# Altium schematic symbol library 001.SchLib: 1 symbol
Pins are listed as number, name and electrical type; pins without a type are passive.

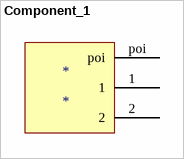
[diagram p0: symbol Component_1]

## Component_1
designator *
footprint DPAK228P970X238-3N (D-PAK, 3-Pads, Body 6,20x6,72mm (max), IPC Medium Density); pin to pad 1>poi poi>1
pins: 1, 2, poi